# Altium schematic symbol library 0402WGF0000TCE.SchLib: 1 symbol
Pins are listed as number, name and electrical type; pins without a type are passive.

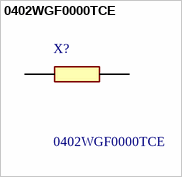
[diagram p0: symbol 0402WGF0000TCE]

## 0402WGF0000TCE
designator X?
Chip Resistor - Surface Mount 0Ohms +/-1% 1/16W 0402 RoHS; Manufacturer_Name: UNI-ROYAL(Uniroyal Elec); Geometry.Height: 0.4mm; Manufacturer_Part_Number: 0402WGF0000TCE; Mouser Part Number: *; Mouser Price/Stock: *; Arrow Part Number: *; Arrow Price/Stock: *; Datasheet Link: https://datasheet.lcsc.com/szlcsc/Uniroyal-Elec-0402WGF0000TCE_C17168.pdf
footprint RESC1005X40N
pins: 1, 2